# Altium schematic symbol library GHLABS_LOGO.SchLib: 1 symbol
Pins are listed as number, name and electrical type; pins without a type are passive.

## GHL_LOGO
designator LOGO, comment L1  (value not drawn)
footprint GHLABS_LOGO